# Altium footprint library eagle-ltspice.PCBLIB: 60 footprints (part 2 of 4)
Each footprint in its own frame and in the unit in brackets; x right, y up, seen from the top. Pads: shape width x height; smd on the part's side, far side on the other; paste and mask are expansions set on the pad; w line width, h text height; cw(c..) or ccw(c..) is an arc to the next point about the centre after c.
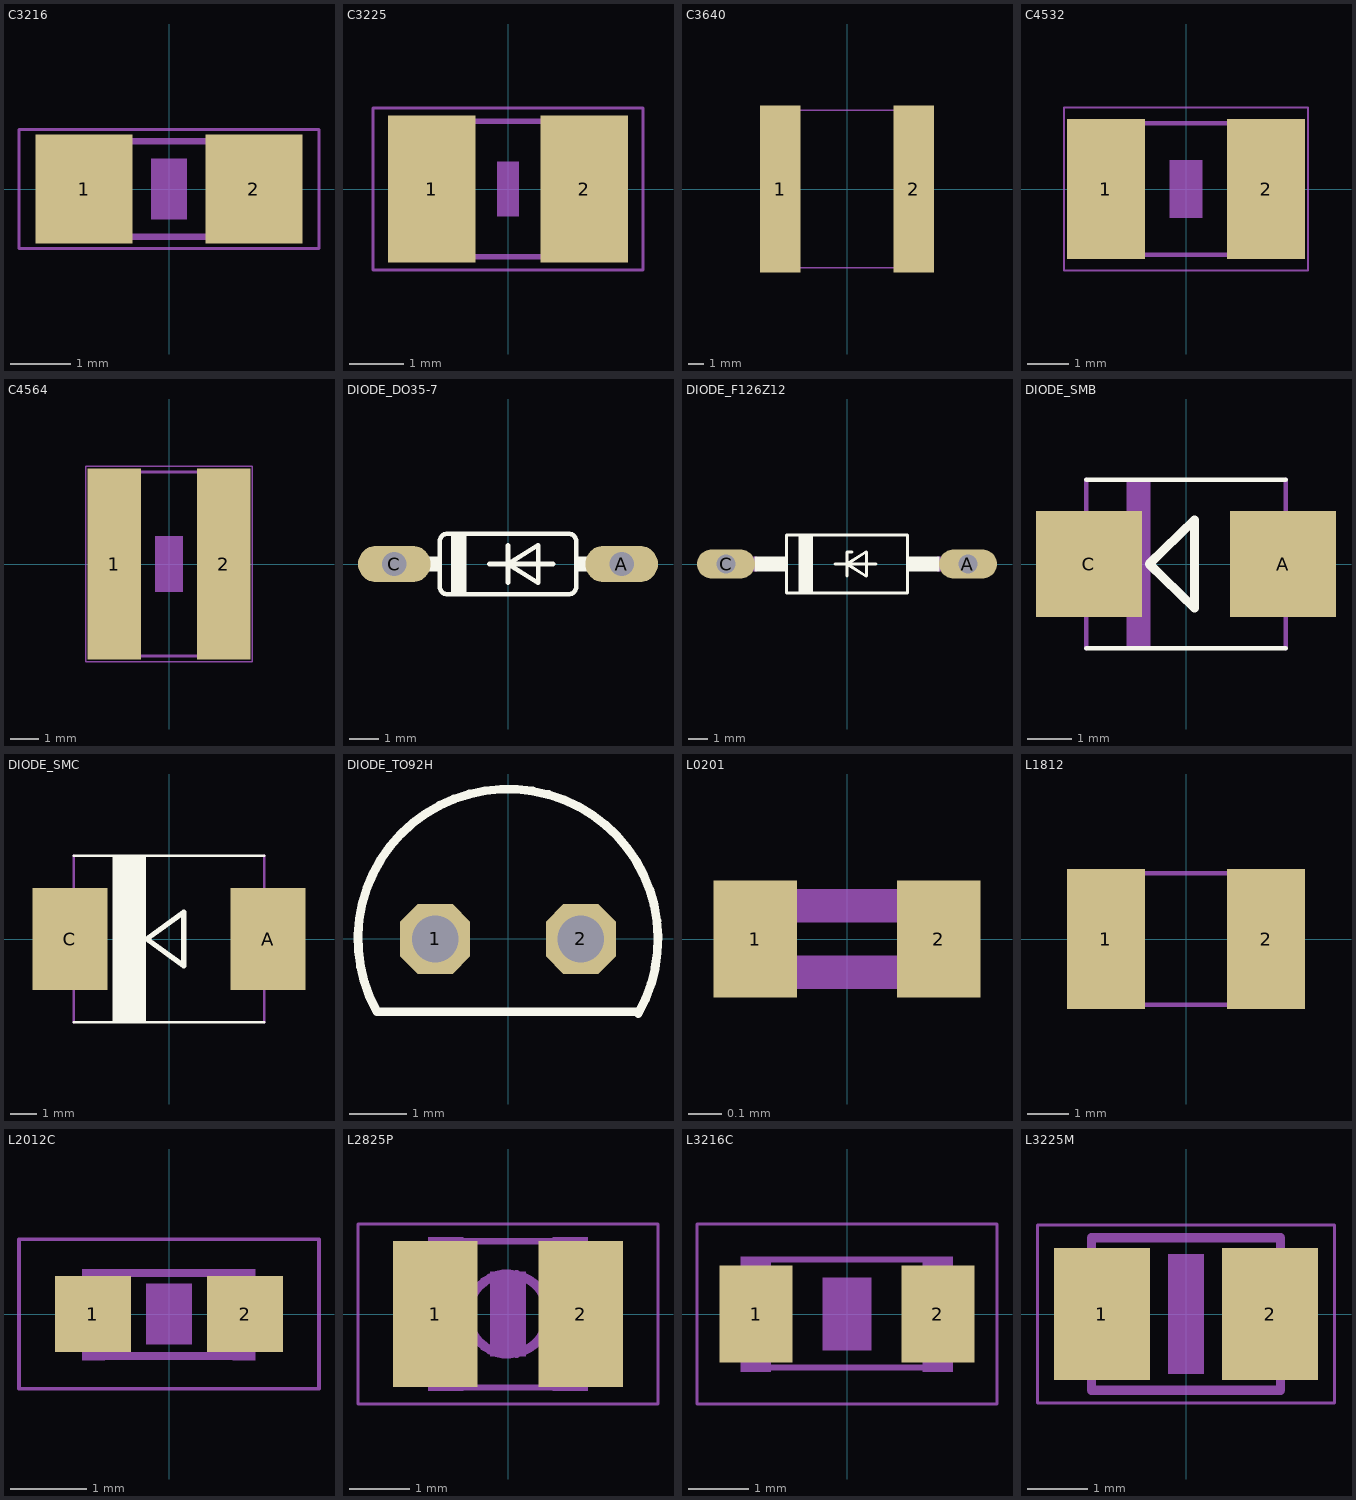
[diagram p1: the footprints below, top view; thin cyan lines are the x and y axes]

## C3216 [mm]
pads (2):
  rect 1.6x1.8 smd: 1(-1.4,0) 2(1.4,0)
Mechanical 6:
  rectangle: -0.3,-0.5 0.3,0.5
Mechanical 16:
  rectangle: -1.702,-0.851 -0.952,0.849
  rectangle: 0.952,-0.849 1.702,0.851
  lines w0.102: -0.965,-0.787 0.965,-0.787 ; -0.965,0.787 0.965,0.787
Mechanical 27:
  lines w0.051: -2.473,-0.983 2.473,-0.983 2.473,0.983 -2.473,0.983 -2.473,-0.983

## C3225 [mm]
pads (2):
  rect 1.6x2.7 smd: 1(-1.4,0) 2(1.4,0)
Mechanical 6:
  rectangle: -0.2,-0.5 0.2,0.5
Mechanical 16:
  rectangle: -1.702,-1.295 -0.952,1.305
  rectangle: 0.952,-1.305 1.702,1.295
  lines w0.102: -0.965,-1.245 0.965,-1.245 ; -0.965,1.245 0.965,1.245
Mechanical 27:
  lines w0.051: -2.473,-1.483 2.473,-1.483 2.473,1.483 -2.473,1.483 -2.473,-1.483

## C3640 [mm]
pads (2):
  rect 2.6x10.7 smd: 1(-4.267,0) 2(4.267,0)
Mechanical 16:
  rectangle: -4.57,-5.1 -3.05,5.1
  rectangle: 3.05,-5.1 4.569,5.1
  lines w0.102: -3.832,-5.05 3.832,-5.05 ; -3.832,5.05 3.832,5.05

## C4532 [mm]
pads (2):
  rect 1.9x3.4 smd: 1(-1.95,0) 2(1.95,0)
Mechanical 6:
  rectangle: -0.4,-0.7 0.4,0.7
Mechanical 16:
  rectangle: -2.388,-1.651 -1.438,1.649
  rectangle: 1.448,-1.651 2.398,1.649
  lines w0.102: -1.473,1.6 1.473,1.6 ; -1.448,-1.6 1.473,-1.6
Mechanical 27:
  lines w0.051: -2.973,-1.983 2.973,-1.983 2.973,1.983 -2.973,1.983 -2.973,-1.983

## C4564 [mm]
pads (2):
  rect 1.9x6.8 smd: 1(-1.95,0) 2(1.95,0)
Mechanical 6:
  rectangle: -0.5,-1 0.5,1
Mechanical 16:
  rectangle: -2.413,-3.353 -1.463,3.347
  rectangle: 1.448,-3.353 2.398,3.347
  lines w0.102: -1.499,3.277 1.473,3.277 ; -1.473,-3.277 1.499,-3.277
Mechanical 27:
  lines w0.051: -2.973,-3.483 2.973,-3.483 2.973,3.483 -2.973,3.483 -2.973,-3.483

## DIODE_DO35-7 [mil]
pads (2):
  oval 96x48 hole 32: A(150,0) C(-150,0)
Top Overlay:
  rectangle: -75,-40 -55,40
  rectangle: 90,-10 115,10
  rectangle: -115,-10 -90,10
  lines w6: -25,0 0,0 ; 0,-25 0,0 ; 0,25 0,0 ; 60,0 0,0 ; 0,0 40,-25 40,25 0,0 ; -90,-30 ccw(c-80,-30) -80,-40 80,-40 ccw(c80,-30) 90,-30 90,30 ccw(c80,30) 80,40 -80,40 ccw(c-80,30) -90,30 -90,-30
Mechanical 16:
  lines w20: -150,0 -115,0 ; 115,0 150,0

## DIODE_F126Z12 [mil]
pads (2):
  oval 120x60 hole 40: A(250,0) C(-250,0)
Top Overlay:
  rectangle: -100,-60 -70,60
  rectangle: -191,-16 -125,16
  rectangle: 125,-16 191,16
  lines w6: -25,0 0,0 ; 0,-25 0,0 ; 10,25 0,25 0,0 ; 60,0 0,0 ; 0,0 40,-25 40,25 0,0 ; -125,-60 125,-60 125,60 -125,60 -125,-60
Mechanical 16:
  lines w32: -250,0 -190,0 ; 190,0 250,0

## DIODE_SMB [mm]
pads (2):
  rect 2.4x2.4 smd: A(2.2,0) C(-2.2,0)
Top Overlay:
  lines w0.102: -2.261,-1.905 2.261,-1.905 ; -2.261,1.905 2.261,1.905
  lines w0.203: -0.83,0 0.193,1 0.193,-1 -0.83,0
Mechanical 16:
  rectangle: -2.794,-1.092 -2.261,1.092
  rectangle: 2.261,-1.092 2.794,1.092
  rectangle: -1.35,-1.9 -0.8,1.9
  lines w0.102: -2.261,-1.905 -2.261,1.905 ; 2.261,-1.905 2.261,1.905

## DIODE_SMC [mm]
pads (2):
  rect 2.8x3.8 smd: A(3.7,0) C(-3.7,0)
Top Overlay:
  rectangle: -2.1,-3.1 -0.85,3.1
  lines w0.102: -3.561,-3.105 3.561,-3.105 ; -3.561,3.105 3.561,3.105
  lines w0.203: -0.83,0 0.543,1 0.543,-1 -0.83,0
Mechanical 16:
  rectangle: -4.094,-1.092 -3.561,1.092
  rectangle: 3.561,-1.092 4.094,1.092
  lines w0.102: -3.561,-3.105 -3.561,3.105 ; 3.561,-3.105 3.561,3.105

## DIODE_TO92H [mil]
pads (2):
  oct 48x48 hole 32: 1(-50,0) 2(50,0)
Top Overlay:
  lines w6: 89.39,-51.08 ccw(c0,0) -90,-50 90,-50

## L0201 [mm]
pads (2):
  rect 0.25x0.35 smd: 1(-0.275,0) 2(0.275,0)
Mechanical 16:
  rectangle: -0.3,-0.15 -0.15,0.15
  rectangle: 0.15,-0.15 0.3,0.15
  rectangle: -0.15,0.05 0.15,0.15
  rectangle: -0.15,-0.15 0.15,-0.05

## L1812 [mm]
pads (2):
  rect 1.9x3.4 smd: 1(-1.95,0) 2(1.95,0)
Mechanical 16:
  rectangle: -2.388,-1.651 -1.438,1.649
  rectangle: 1.448,-1.651 2.398,1.649
  lines w0.102: -1.473,1.6 1.473,1.6 ; -1.448,-1.6 1.473,-1.6

## L2012C [mm]
pads (2):
  rect 1x1 smd: 1(-1,0) 2(1,0)
Mechanical 6:
  rectangle: -0.3,-0.4 0.3,0.4
Mechanical 16:
  rectangle: -1.143,-0.61 -0.843,0.59
  rectangle: 0.838,-0.61 1.138,0.59
  lines w0.102: -0.864,-0.553 0.864,-0.553 ; -0.864,0.54 0.864,0.54
Mechanical 27:
  lines w0.051: -1.973,-0.983 1.973,-0.983 1.973,0.983 -1.973,0.983 -1.973,-0.983

## L2825P [mm]
pads (2):
  rect 1.4x2.4 smd: 1(-1.2,0) 2(1.2,0)
Mechanical 6:
  rectangle: -0.3,-0.7 0.3,0.7
Mechanical 16:
  circle w0.152: c0,0 r0.66
  rectangle: 0.737,-1.27 1.321,1.27
  rectangle: -1.321,-1.27 -0.737,1.27
  lines w0.102: -1.34,-0.965 -1.34,0.965 ; -0.762,-1.213 0.762,-1.213 ; -0.762,1.2 0.762,1.2 ; 1.34,-0.965 1.34,0.965
Mechanical 27:
  lines w0.051: -2.473,-1.483 2.473,-1.483 2.473,1.483 -2.473,1.483 -2.473,-1.483

## L3216C [mm]
pads (2):
  rect 1.2x1.6 smd: 1(-1.5,0) 2(1.5,0)
Mechanical 6:
  rectangle: -0.4,-0.6 0.4,0.6
Mechanical 16:
  rectangle: -1.753,-0.953 -1.252,0.947
  rectangle: 1.245,-0.953 1.745,0.947
  lines w0.102: -1.27,-0.883 1.27,-0.883 ; -1.27,0.896 1.27,0.896
Mechanical 27:
  lines w0.051: -2.473,-1.483 2.473,-1.483 2.473,1.483 -2.473,1.483 -2.473,-1.483

## L3225M [mm]
pads (2):
  rect 1.6x2.2 smd: 1(-1.4,0) 2(1.4,0)
Mechanical 6:
  rectangle: -0.3,-1 0.3,1
Mechanical 16:
  lines w0.152: -1.651,-0.94 -1.651,0.94 ; 1.651,-0.94 1.651,0.94 ; -1.575,-1.27 1.575,-1.27 1.575,1.27 -1.575,1.27 -1.575,-1.27
Mechanical 27:
  lines w0.051: -2.473,-1.483 2.473,-1.483 2.473,1.483 -2.473,1.483 -2.473,-1.483